# Altium footprint library Connector_Audio.PcbLib: 212 footprints (part 5 of 14)
Each footprint in its own frame and in the unit in brackets; x right, y up, seen from the top. Pads: shape width x height; smd on the part's side, far side on the other; paste and mask are expansions set on the pad; w line width, h text height; cw(c..) or ccw(c..) is an arc to the next point about the centre after c.
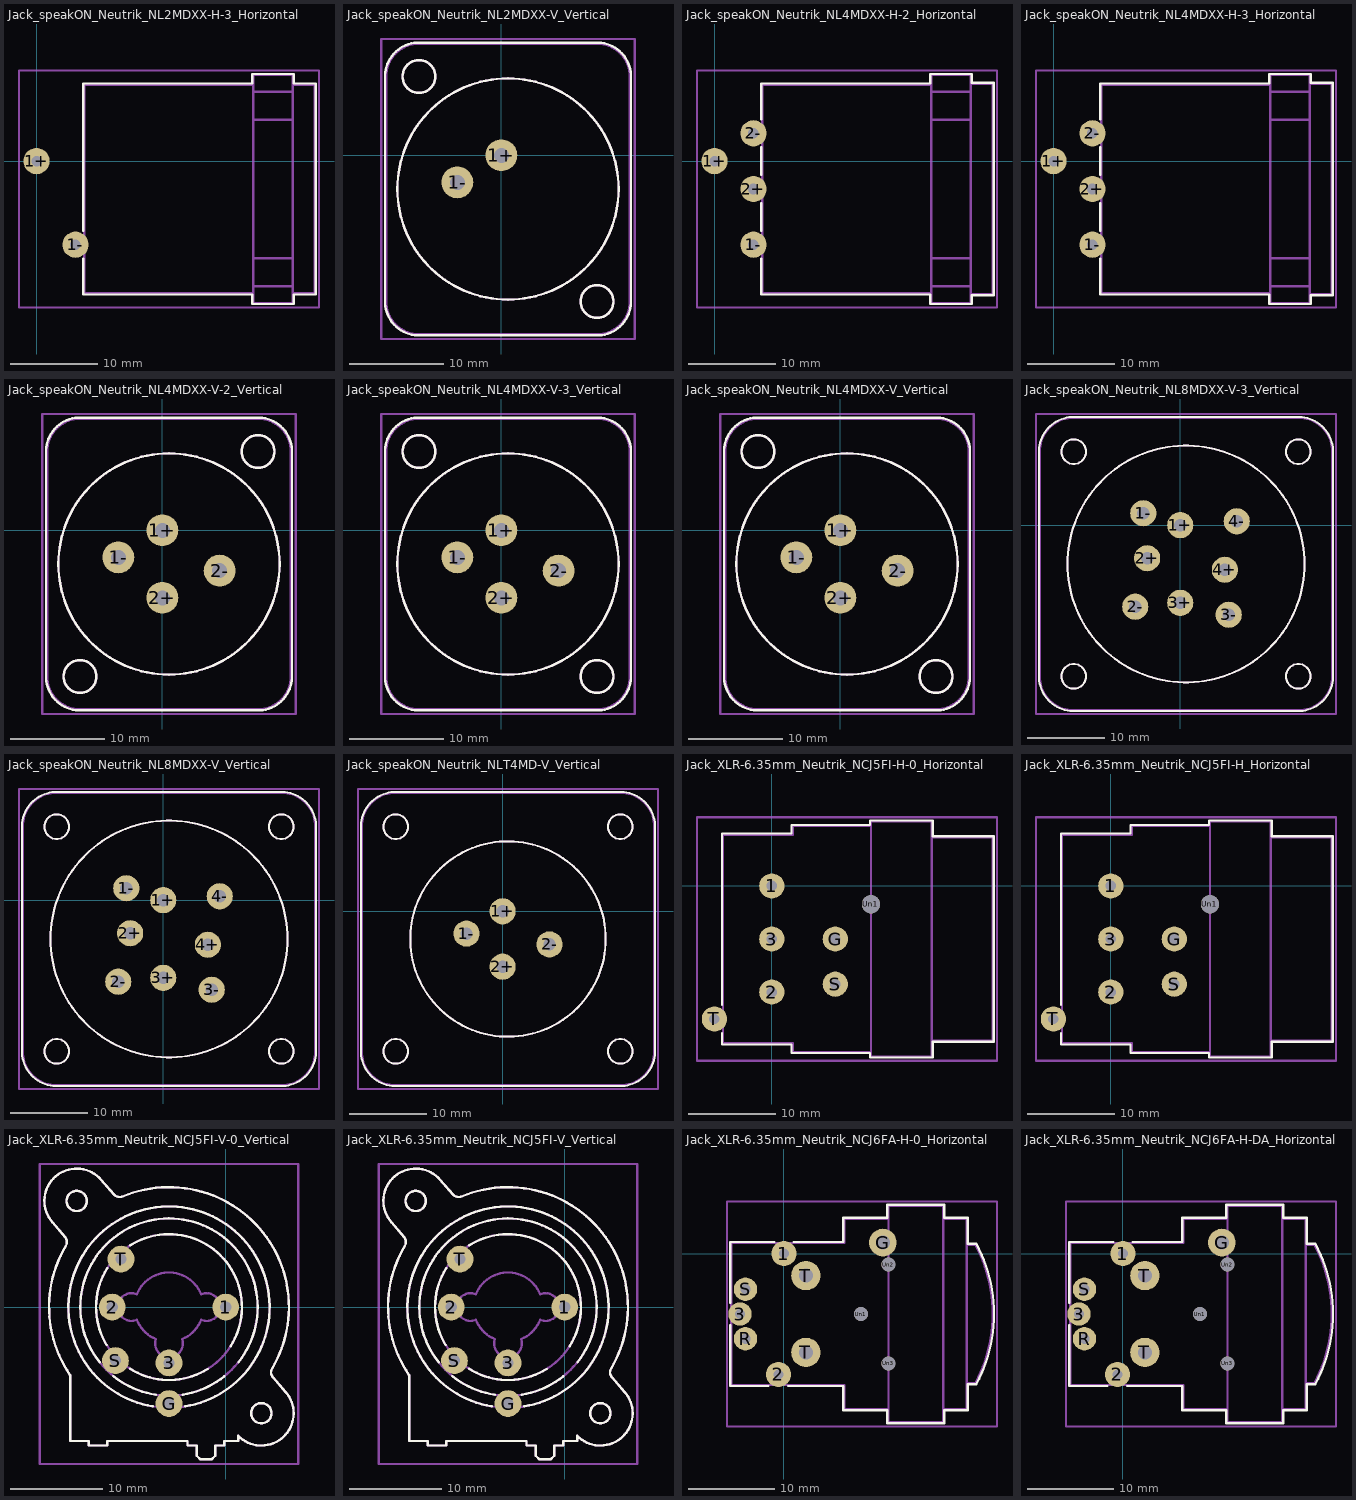
[diagram p4: the footprints below, top view; thin cyan lines are the x and y axes]

## Jack_speakON_Neutrik_NL2MDXX-H-3_Horizontal [mm]
pads (2):
  round 3 hole 1.2: 1+(0,0) 1-(4.44,-9.53)
F.SilkS:
  lines w0.254: 5.32,-11.13 5.32,-15.2 24.59,-15.2 24.59,-16.3 29.33,-16.3 29.33,-15.2 31.83,-15.2 31.83,8.84 29.33,8.84 29.33,9.94 24.59,9.94 24.59,8.84 5.32,8.84 5.32,-7.93
Top Assembly:
  lines w0.254: 24.71,-15.08 5.44,-15.08 5.44,8.72 24.71,8.72 ; 24.71,-14.28 29.21,-14.28 ; 24.71,-11.08 29.21,-11.08 ; 24.71,4.72 29.21,4.72 ; 24.71,7.92 29.21,7.92 ; 29.21,-15.08 31.71,-15.08 31.71,8.72 29.21,8.72 ; 24.71,-16.18 29.21,-16.18 29.21,9.82 24.71,9.82 24.71,-16.18
  text "'.Designator'" at 13.453,-5.605 h1
Top Courtyard:
  lines w0.254: -2,-16.68 32.21,-16.68 32.21,10.32 -2,10.32 -2,-16.68
Top Designator:
  text ".Designator" at 7.487,-3.688 h1.52
Dwgs.User:
  lines w0.254: 29.21,-16.18 29.21,9.82

## Jack_speakON_Neutrik_NL2MDXX-V_Vertical [mm]
pads (2):
  round 3.4 hole 1.6: 1+(0,0) 1-(-4.7,-2.9)
F.SilkS:
  circle w0.254: c-8.8,8.4 r1.75
  circle w0.254: c0.7,-3.6 r11.8
  circle w0.254: c10.2,-15.6 r1.75
  lines w0.254: -12.42,-15.72 -12.42,8.52 cw(c-8.8,8.4) -8.68,12.02 ; -12.42,-15.48 ccw(c-8.8,-15.6) -8.92,-19.22 10.32,-19.22 ; -8.92,12.02 10.32,12.02 cw(c10.2,8.4) 13.82,8.28 ; 10.08,-19.22 ccw(c10.2,-15.6) 13.82,-15.72 13.82,8.52
Top Assembly:
  circle w0.254: c-8.8,8.4 r1.75
  circle w0.254: c0.7,-3.6 r11.8
  circle w0.254: c10.2,-15.6 r1.75
  lines w0.254: -12.3,-15.6 ccw(c-8.8,-15.6) -8.8,-19.1 10.2,-19.1 ccw(c10.2,-15.6) 13.7,-15.6 13.7,8.4 ccw(c10.2,8.4) 10.2,11.9 -8.8,11.9 ccw(c-8.8,8.4) -12.3,8.4 -12.3,-15.6
  text "'.Designator'" at -3.347,-4.44 h1
Top Courtyard:
  lines w0.254: -12.8,-19.6 -12.8,12.4 14.2,12.4 14.2,-19.6 -12.8,-19.6
Top Designator:
  text ".Designator" at -6.918,-4.108 h1.52

## Jack_speakON_Neutrik_NL4MDXX-H-2_Horizontal [mm]
pads (4):
  round 3 hole 1.2: 1+(0,0) 1-(4.44,-9.53) 2+(4.44,-3.18) 2-(4.44,3.17)
F.SilkS:
  lines w0.254: 5.32,-11.13 5.32,-15.2 24.59,-15.2 24.59,-16.3 29.33,-16.3 29.33,-15.3 31.83,-15.3 31.83,8.94 29.33,8.94 29.33,9.94 24.59,9.94 24.59,8.84 5.32,8.84 5.32,4.77 ; 5.32,-7.93 5.32,-4.78 ; 5.32,-1.58 5.32,1.57
Top Assembly:
  lines w0.254: 24.71,-15.08 5.44,-15.08 5.44,8.72 24.71,8.72 ; 24.71,-14.28 29.21,-14.28 ; 24.71,-11.08 29.21,-11.08 ; 24.71,4.72 29.21,4.72 ; 24.71,7.92 29.21,7.92 ; 29.21,-15.18 31.71,-15.18 31.71,8.82 29.21,8.82 ; 24.71,-16.18 24.71,9.82 29.21,9.82 29.21,-16.18 24.71,-16.18
  text "'.Designator'" at 13.453,-5.605 h1
Top Courtyard:
  lines w0.254: -2,-16.68 -2,10.32 32.21,10.32 32.21,-16.68 -2,-16.68
Top Designator:
  text ".Designator" at 7.487,-3.688 h1.52
Dwgs.User:
  lines w0.254: 29.21,-16.18 29.21,9.82

## Jack_speakON_Neutrik_NL4MDXX-H-3_Horizontal [mm]
pads (4):
  round 3 hole 1.2: 1+(0,0) 1-(4.44,-9.53) 2+(4.44,-3.18) 2-(4.44,3.17)
F.SilkS:
  lines w0.254: 5.32,-11.13 5.32,-15.2 24.6,-15.2 ; 5.32,-7.93 5.32,-4.78 ; 5.32,-1.58 5.32,1.57 ; 5.32,4.77 5.32,8.84 24.59,8.84 24.59,9.94 29.33,9.94 29.33,8.94 31.83,8.94 31.83,-15.3 29.33,-15.3 29.33,-16.3 24.59,-16.3 24.59,-15.2
Top Assembly:
  lines w0.254: 24.71,-15.08 5.44,-15.08 5.44,8.72 24.71,8.72 ; 24.71,-14.28 29.21,-14.28 ; 24.71,-11.08 29.21,-11.08 ; 24.71,4.72 29.21,4.72 ; 24.71,7.92 29.21,7.92 ; 29.21,-15.18 31.71,-15.18 31.71,8.82 29.21,8.82 ; 24.71,-16.18 29.21,-16.18 29.21,9.82 24.71,9.82 24.71,-16.18
  text "'.Designator'" at 13.453,-5.605 h1
Top Courtyard:
  lines w0.254: -2,-16.68 32.21,-16.68 32.21,10.32 -2,10.32 -2,-16.68
Top Designator:
  text ".Designator" at 7.487,-3.688 h1.52
Dwgs.User:
  lines w0.254: 29.21,-16.18 29.21,9.82

## Jack_speakON_Neutrik_NL4MDXX-V-2_Vertical [mm]
pads (4):
  round 3.4 hole 1.6: 1+(0,0) 1-(-4.7,-2.9) 2+(0,-7.2) 2-(6.1,-4.3)
F.SilkS:
  circle w0.254: c10.2,8.4 r1.75
  circle w0.254: c0.7,-3.6 r11.8
  circle w0.254: c-8.8,-15.6 r1.75
  lines w0.254: -12.42,-15.72 -12.42,8.52 cw(c-8.8,8.4) -8.68,12.02 ; -12.42,-15.48 ccw(c-8.8,-15.6) -8.92,-19.22 10.32,-19.22 ; -8.92,12.02 10.32,12.02 cw(c10.2,8.4) 13.82,8.28 ; 10.08,-19.22 ccw(c10.2,-15.6) 13.82,-15.72 13.82,8.52
Top Assembly:
  circle w0.254: c10.2,8.4 r1.75
  circle w0.254: c0.7,-3.6 r11.8
  circle w0.254: c-8.8,-15.6 r1.75
  lines w0.254: -12.3,-15.6 ccw(c-8.8,-15.6) -8.8,-19.1 10.2,-19.1 ccw(c10.2,-15.6) 13.7,-15.6 13.7,8.4 ccw(c10.2,8.4) 10.2,11.9 -8.8,11.9 ccw(c-8.8,8.4) -12.3,8.4 -12.3,-15.6
  text "'.Designator'" at -3.347,-4.44 h1
Top Courtyard:
  lines w0.254: -12.8,-19.6 14.2,-19.6 14.2,12.4 -12.8,12.4 -12.8,-19.6
Top Designator:
  text ".Designator" at -6.918,-4.108 h1.52

## Jack_speakON_Neutrik_NL4MDXX-V-3_Vertical [mm]
pads (4):
  round 3.4 hole 1.6: 1+(0,0) 1-(-4.7,-2.9) 2+(0,-7.2) 2-(6.1,-4.3)
F.SilkS:
  circle w0.254: c10.2,-15.6 r1.75
  circle w0.254: c0.7,-3.6 r11.8
  circle w0.254: c-8.8,8.4 r1.75
  lines w0.254: -12.42,-15.72 -12.42,8.52 cw(c-8.8,8.4) -8.68,12.02 ; -12.42,-15.48 ccw(c-8.8,-15.6) -8.92,-19.22 10.32,-19.22 ; -8.92,12.02 10.32,12.02 cw(c10.2,8.4) 13.82,8.28 ; 10.08,-19.22 ccw(c10.2,-15.6) 13.82,-15.72 13.82,8.52
Top Assembly:
  circle w0.254: c10.2,-15.6 r1.75
  circle w0.254: c0.7,-3.6 r11.8
  circle w0.254: c-8.8,8.4 r1.75
  lines w0.254: -12.3,-15.6 ccw(c-8.8,-15.6) -8.8,-19.1 10.2,-19.1 ccw(c10.2,-15.6) 13.7,-15.6 13.7,8.4 ccw(c10.2,8.4) 10.2,11.9 -8.8,11.9 ccw(c-8.8,8.4) -12.3,8.4 -12.3,-15.6
  text "'.Designator'" at -3.347,-4.44 h1
Top Courtyard:
  lines w0.254: -12.8,-19.6 14.2,-19.6 14.2,12.4 -12.8,12.4 -12.8,-19.6
Top Designator:
  text ".Designator" at -6.918,-4.108 h1.52

## Jack_speakON_Neutrik_NL4MDXX-V_Vertical [mm]
pads (4):
  round 3.4 hole 1.6: 1+(0,0) 1-(-4.7,-2.9) 2+(0,-7.2) 2-(6.1,-4.3)
F.SilkS:
  circle w0.254: c10.2,-15.6 r1.75
  circle w0.254: c0.7,-3.6 r11.8
  circle w0.254: c-8.8,8.4 r1.75
  lines w0.254: -12.42,-15.72 -12.42,8.52 cw(c-8.8,8.4) -8.68,12.02 ; -12.42,-15.48 ccw(c-8.8,-15.6) -8.92,-19.22 10.32,-19.22 ; -8.92,12.02 10.32,12.02 cw(c10.2,8.4) 13.82,8.28 ; 10.08,-19.22 ccw(c10.2,-15.6) 13.82,-15.72 13.82,8.52
Top Assembly:
  circle w0.254: c10.2,-15.6 r1.75
  circle w0.254: c0.7,-3.6 r11.8
  circle w0.254: c-8.8,8.4 r1.75
  lines w0.254: -12.3,-15.6 ccw(c-8.8,-15.6) -8.8,-19.1 10.2,-19.1 ccw(c10.2,-15.6) 13.7,-15.6 13.7,8.4 ccw(c10.2,8.4) 10.2,11.9 -8.8,11.9 ccw(c-8.8,8.4) -12.3,8.4 -12.3,-15.6
  text "'.Designator'" at -3.347,-4.44 h1
Top Courtyard:
  lines w0.254: -12.8,-19.6 14.2,-19.6 14.2,12.4 -12.8,12.4 -12.8,-19.6
Top Designator:
  text ".Designator" at -6.918,-4.108 h1.52

## Jack_speakON_Neutrik_NL8MDXX-V-3_Vertical [mm]
pads (8):
  round 3.4 hole 1.6: 1+(0,0) 1-(-4.8,1.55) 2+(-4.3,-4.3) 2-(-5.85,-10.6) 3+(0,-10.1) 3-(6.3,-11.65) 4+(5.8,-5.8) 4-(7.35,0.5)
F.SilkS:
  circle w0.254: c15.35,-19.65 r1.6
  circle w0.254: c15.35,9.55 r1.6
  circle w0.254: c0.75,-5.05 r15.4
  circle w0.254: c-13.85,-19.65 r1.6
  circle w0.254: c-13.85,9.55 r1.6
  lines w0.254: -18.37,-19.77 -18.37,9.67 cw(c-13.85,9.55) -13.73,14.07 ; -18.37,-19.53 ccw(c-13.85,-19.65) -13.97,-24.17 15.47,-24.17 ; -13.97,14.07 15.47,14.07 cw(c15.35,9.55) 19.87,9.43 ; 15.23,-24.17 ccw(c15.35,-19.65) 19.87,-19.77 19.87,9.67
Top Assembly:
  circle w0.254: c15.35,-19.65 r1.6
  circle w0.254: c15.35,9.55 r1.6
  circle w0.254: c0.75,-5.05 r15.4
  circle w0.254: c-13.85,-19.65 r1.6
  circle w0.254: c-13.85,9.55 r1.6
  lines w0.254: -18.25,-19.65 ccw(c-13.85,-19.65) -13.85,-24.05 15.35,-24.05 ccw(c15.35,-19.65) 19.75,-19.65 19.75,9.55 ccw(c15.35,9.55) 15.35,13.95 -13.85,13.95 ccw(c-13.85,9.55) -18.25,9.55 -18.25,-19.65
  text "'.Designator'" at -3.297,-5.89 h1
Top Courtyard:
  lines w0.254: -18.75,-24.55 20.25,-24.55 20.25,14.45 -18.75,14.45 -18.75,-24.55
Top Designator:
  text ".Designator" at -6.868,-5.558 h1.52

## Jack_speakON_Neutrik_NL8MDXX-V_Vertical [mm]
pads (8):
  round 3.4 hole 1.6: 1+(0,0) 1-(-4.8,1.55) 2+(-4.3,-4.3) 2-(-5.85,-10.6) 3+(0,-10.1) 3-(6.3,-11.65) 4+(5.8,-5.8) 4-(7.35,0.5)
F.SilkS:
  circle w0.254: c15.35,-19.65 r1.6
  circle w0.254: c15.35,9.55 r1.6
  circle w0.254: c0.75,-5.05 r15.4
  circle w0.254: c-13.85,-19.65 r1.6
  circle w0.254: c-13.85,9.55 r1.6
  lines w0.254: -18.37,-19.77 -18.37,9.67 cw(c-13.85,9.55) -13.73,14.07 ; -18.37,-19.53 ccw(c-13.85,-19.65) -13.97,-24.17 15.47,-24.17 ; -13.97,14.07 15.47,14.07 cw(c15.35,9.55) 19.87,9.43 ; 15.23,-24.17 ccw(c15.35,-19.65) 19.87,-19.77 19.87,9.67
Top Assembly:
  circle w0.254: c15.35,-19.65 r1.6
  circle w0.254: c15.35,9.55 r1.6
  circle w0.254: c0.75,-5.05 r15.4
  circle w0.254: c-13.85,-19.65 r1.6
  circle w0.254: c-13.85,9.55 r1.6
  lines w0.254: -18.25,-19.65 ccw(c-13.85,-19.65) -13.85,-24.05 15.35,-24.05 ccw(c15.35,-19.65) 19.75,-19.65 19.75,9.55 ccw(c15.35,9.55) 15.35,13.95 -13.85,13.95 ccw(c-13.85,9.55) -18.25,9.55 -18.25,-19.65
  text "'.Designator'" at -3.297,-5.89 h1
Top Courtyard:
  lines w0.254: -18.75,-24.55 20.25,-24.55 20.25,14.45 -18.75,14.45 -18.75,-24.55
Top Designator:
  text ".Designator" at -6.868,-5.558 h1.52

## Jack_speakON_Neutrik_NLT4MD-V_Vertical [mm]
pads (4):
  round 3.4 hole 1.6: 1+(0,0) 1-(-4.7,-2.9) 2+(0,-7.2) 2-(6.1,-4.3)
F.SilkS:
  circle w0.254: c15.3,-18.2 r1.6
  circle w0.254: c15.3,11 r1.6
  circle w0.254: c0.7,-3.6 r12.7
  circle w0.254: c-13.9,-18.2 r1.6
  circle w0.254: c-13.9,11 r1.6
  lines w0.254: -18.42,-18.32 -18.42,11.12 cw(c-13.9,11) -13.78,15.52 ; -18.42,-18.08 ccw(c-13.9,-18.2) -14.02,-22.72 15.42,-22.72 ; -14.02,15.52 15.42,15.52 cw(c15.3,11) 19.82,10.88 ; 15.18,-22.72 ccw(c15.3,-18.2) 19.82,-18.32 19.82,11.12
Top Assembly:
  circle w0.254: c15.3,-18.2 r1.6
  circle w0.254: c15.3,11 r1.6
  circle w0.254: c0.7,-3.6 r12.7
  circle w0.254: c-13.9,-18.2 r1.6
  circle w0.254: c-13.9,11 r1.6
  lines w0.254: -18.3,-18.2 ccw(c-13.9,-18.2) -13.9,-22.6 15.3,-22.6 ccw(c15.3,-18.2) 19.7,-18.2 19.7,11 ccw(c15.3,11) 15.3,15.4 -13.9,15.4 ccw(c-13.9,11) -18.3,11 -18.3,-18.2
  text "'.Designator'" at -3.347,-4.44 h1
Top Courtyard:
  lines w0.254: -18.8,-23.1 20.2,-23.1 20.2,15.9 -18.8,15.9 -18.8,-23.1
Top Designator:
  text ".Designator" at -6.918,-4.108 h1.52

## Jack_XLR-6.35mm_Neutrik_NCJ5FI-H-0_Horizontal [mm]
pads (7):
  round 2.9 hole 1.2: 1(0,0) 2(0,-12.2) 3(0,-6.1) G(7.3,-6.1) S(7.3,-11.3) T(-6.6,-15.3)
  round 2.1 hole 2.1: Un1(11.4,-2.1)
F.SilkS:
  lines w0.254: -5.72,-16.9 -5.72,-18.22 2.28,-18.22 2.28,-19.22 11.28,-19.22 11.28,-19.72 18.52,-19.72 18.52,-17.92 25.52,-17.92 25.52,5.72 18.52,5.72 18.52,7.52 11.28,7.52 11.28,7.02 2.28,7.02 2.28,6.02 -5.72,6.02 -5.72,-13.7
Top Assembly:
  lines w0.254: 11.4,-19.1 2.4,-19.1 2.4,-18.1 -5.6,-18.1 -5.6,5.9 2.4,5.9 2.4,6.9 11.4,6.9 ; 18.4,-17.8 25.4,-17.8 25.4,5.6 18.4,5.6 ; 11.4,-19.6 18.4,-19.6 18.4,7.4 11.4,7.4 11.4,-19.6
  text "'.Designator'" at 10.853,-6.94 h1
Top Courtyard:
  lines w0.254: -8.6,-20.1 25.9,-20.1 25.9,7.9 -8.6,7.9 -8.6,-20.1
Top Designator:
  text ".Designator" at 1.032,-6.608 h1.52
Dwgs.User:
  lines w0.254: 18.4,-19.6 18.4,7.4

## Jack_XLR-6.35mm_Neutrik_NCJ5FI-H_Horizontal [mm]
pads (7):
  round 2.9 hole 1.2: 1(0,0) 2(0,-12.2) 3(0,-6.1) G(7.3,-6.1) S(7.3,-11.3) T(-6.6,-15.3)
  round 2.1 hole 2.1: Un1(11.4,-2.1)
F.SilkS:
  lines w0.254: -5.72,-16.9 -5.72,-18.22 2.28,-18.22 2.28,-19.22 11.28,-19.22 11.28,-19.72 18.52,-19.72 18.52,-17.92 25.52,-17.92 25.52,5.72 18.52,5.72 18.52,7.52 11.28,7.52 11.28,7.02 2.28,7.02 2.28,6.02 -5.72,6.02 -5.72,-13.7
Top Assembly:
  lines w0.254: 11.4,-19.1 2.4,-19.1 2.4,-18.1 -5.6,-18.1 -5.6,5.9 2.4,5.9 2.4,6.9 11.4,6.9 ; 18.4,-17.8 25.4,-17.8 25.4,5.6 18.4,5.6 ; 11.4,-19.6 18.4,-19.6 18.4,7.4 11.4,7.4 11.4,-19.6
  text "'.Designator'" at 10.853,-6.94 h1
Top Courtyard:
  lines w0.254: -8.6,-20.1 25.9,-20.1 25.9,7.9 -8.6,7.9 -8.6,-20.1
Top Designator:
  text ".Designator" at 1.032,-6.608 h1.52
Dwgs.User:
  lines w0.254: 18.4,-19.6 18.4,7.4

## Jack_XLR-6.35mm_Neutrik_NCJ5FI-V-0_Vertical [mm]
pads (6):
  round 2.9 hole 1.2: 1(0,0) 2(-12.3,0) 3(-6.15,-6.05) G(-6.15,-10.45) S(-11.95,-5.8) T(-11.35,5.2)
F.SilkS:
  circle w0.254: c-16.15,11.5 r1.1
  circle w0.254: c3.85,-11.5 r1.1
  lines w0.254: -16.851,-7.375 cw(c-6.15,0) -17.31,6.66 ccw(c-18.08,7.06) -17.4,7.6 -18.79,9.2 cw(c-16.15,11.5) -13.51,13.8 -12.11,12.19 ccw(c-11.5,12.73) -11.178,11.982 ; -16.85,-7.38 -16.85,-14.5 -14.85,-14.5 -14.85,-15 -12.85,-15 -12.85,-14.5 -4.15,-14.5 -4.15,-15 -3.15,-15 -3.15,-16.1 -2.75,-16.5 -1.55,-16.5 -1.15,-16.1 -1.15,-15 -0.15,-15 -0.15,-14.5 1.35,-14.5 1.35,-13.95 ; -13.65,-6 cw(c-6.15,0) 1.373,-5.971 ; -12.9,-4.11 cw(c-6.15,0) -12.847,4.195 ; -12.191,-7.464 ccw(c-6.15,0) -7.55,-9.5 ; -11.201,11.974 cw(c-6.15,0) 5.01,-6.66 ccw(c5.69,-7.07) 5.109,-7.612 ; -10.37,-6.681 ccw(c-6.15,0) -1.96,-6.7 ; -10.34,6.7 cw(c-6.15,0) 0.524,-4.232 ; -7.9,-10.76 cw(c-6.15,0) -4.395,-10.759 ; -4.663,-9.483 ccw(c-6.15,0) -0.16,-7.5 ; 1.351,-13.953 ccw(c3.85,-11.5) 6.49,-9.2 5.1,-7.6
Top Assembly:
  circle w0.254: c-16.15,11.5 r1.1
  circle w0.254: c-6.15,0 r7.9
  circle w0.254: c-6.15,0 r9.6
  circle w0.254: c-6.15,0 r10.9
  circle w0.254: c3.85,-11.5 r1.1
  lines w0.254: -16.851,-7.375 cw(c-6.15,0) -17.31,6.66 ccw(c-18.08,7.06) -17.4,7.6 -18.79,9.2 cw(c-16.15,11.5) -13.51,13.8 -12.11,12.19 ccw(c-11.5,12.73) -11.178,11.982 ; -16.85,-7.38 -16.85,-14.5 -14.85,-14.5 -14.85,-15 -12.85,-15 -12.85,-14.5 -4.15,-14.5 -4.15,-15 -3.15,-15 -3.15,-16.1 -2.75,-16.5 -1.55,-16.5 -1.15,-16.1 -1.15,-15 -0.15,-15 -0.15,-14.5 1.35,-14.5 1.35,-13.95 ; -11.201,11.974 cw(c-6.15,0) 5.01,-6.66 ccw(c5.69,-7.07) 5.109,-7.612 ; -9.635,-1.392 cw(c-10.2,0) -9.63,1.39 ; -9.631,1.387 cw(c-6.15,0) -2.67,1.39 ; -9.63,-1.39 ccw(c-6.15,0) -7.568,-3.469 ; -7.57,-3.47 ccw(c-6.15,-3.95) -4.73,-3.471 ; -4.73,-3.47 ccw(c-6.15,0) -2.667,-1.389 ; -2.67,-1.39 ccw(c-2.1,0) -2.665,1.392 ; 1.351,-13.953 ccw(c3.85,-11.5) 6.49,-9.2 5.1,-7.6
  text "'.Designator'" at -10.197,-0.84 h1
Top Courtyard:
  lines w0.254: -20.15,-17 -20.15,15.5 7.85,15.5 7.85,-17 -20.15,-17
Top Designator:
  text ".Designator" at -13.768,-1.258 h1.52

## Jack_XLR-6.35mm_Neutrik_NCJ5FI-V_Vertical [mm]
pads (6):
  round 2.9 hole 1.2: 1(0,0) 2(-12.3,0) 3(-6.15,-6.05) G(-6.15,-10.45) S(-11.95,-5.8) T(-11.35,5.2)
F.SilkS:
  circle w0.254: c-16.15,11.5 r1.1
  circle w0.254: c3.85,-11.5 r1.1
  lines w0.254: -16.851,-7.375 cw(c-6.15,0) -17.31,6.66 ccw(c-18.08,7.06) -17.4,7.6 -18.79,9.2 cw(c-16.15,11.5) -13.51,13.8 -12.11,12.19 ccw(c-11.5,12.73) -11.178,11.982 ; -16.85,-7.38 -16.85,-14.5 -14.85,-14.5 -14.85,-15 -12.85,-15 -12.85,-14.5 -4.15,-14.5 -4.15,-15 -3.15,-15 -3.15,-16.1 -2.75,-16.5 -1.55,-16.5 -1.15,-16.1 -1.15,-15 -0.15,-15 -0.15,-14.5 1.35,-14.5 1.35,-13.95 ; -13.65,-6 cw(c-6.15,0) 1.373,-5.971 ; -12.9,-4.11 cw(c-6.15,0) -12.847,4.195 ; -12.191,-7.464 ccw(c-6.15,0) -7.55,-9.5 ; -11.201,11.974 cw(c-6.15,0) 5.01,-6.66 ccw(c5.69,-7.07) 5.109,-7.612 ; -10.37,-6.681 ccw(c-6.15,0) -1.96,-6.7 ; -10.34,6.7 cw(c-6.15,0) 0.524,-4.232 ; -7.9,-10.76 cw(c-6.15,0) -4.395,-10.759 ; -4.663,-9.483 ccw(c-6.15,0) -0.16,-7.5 ; 1.351,-13.953 ccw(c3.85,-11.5) 6.49,-9.2 5.1,-7.6
Top Assembly:
  circle w0.254: c-16.15,11.5 r1.1
  circle w0.254: c-6.15,0 r7.9
  circle w0.254: c-6.15,0 r9.6
  circle w0.254: c-6.15,0 r10.9
  circle w0.254: c3.85,-11.5 r1.1
  lines w0.254: -16.851,-7.375 cw(c-6.15,0) -17.31,6.66 ccw(c-18.08,7.06) -17.4,7.6 -18.79,9.2 cw(c-16.15,11.5) -13.51,13.8 -12.11,12.19 ccw(c-11.5,12.73) -11.178,11.982 ; -16.85,-7.38 -16.85,-14.5 -14.85,-14.5 -14.85,-15 -12.85,-15 -12.85,-14.5 -4.15,-14.5 -4.15,-15 -3.15,-15 -3.15,-16.1 -2.75,-16.5 -1.55,-16.5 -1.15,-16.1 -1.15,-15 -0.15,-15 -0.15,-14.5 1.35,-14.5 1.35,-13.95 ; -11.201,11.974 cw(c-6.15,0) 5.01,-6.66 ccw(c5.69,-7.07) 5.109,-7.612 ; -9.635,-1.392 cw(c-10.2,0) -9.63,1.39 ; -9.631,1.387 cw(c-6.15,0) -2.67,1.39 ; -9.63,-1.39 ccw(c-6.15,0) -7.568,-3.469 ; -7.57,-3.47 ccw(c-6.15,-3.95) -4.73,-3.471 ; -4.73,-3.47 ccw(c-6.15,0) -2.667,-1.389 ; -2.67,-1.39 ccw(c-2.1,0) -2.665,1.392 ; 1.351,-13.953 ccw(c3.85,-11.5) 6.49,-9.2 5.1,-7.6
  text "'.Designator'" at -10.197,-0.84 h1
Top Courtyard:
  lines w0.254: -20.15,-17 -20.15,15.5 7.85,15.5 7.85,-17 -20.15,-17
Top Designator:
  text ".Designator" at -13.768,-1.258 h1.52

## Jack_XLR-6.35mm_Neutrik_NCJ6FA-H-0_Horizontal [mm]
pads (11):
  round 2.9 hole 1.2: 1(0,0) 2(-0.635,-13.97)
  round 2.7 hole 1.2: 3(-5.08,-6.985) R(-4.445,-9.842) S(-4.445,-4.127)
  round 3.2 hole 1.6: G(11.43,1.27)
  round 3.4 hole 1.6: T(2.54,-11.43) T(2.54,-2.54)
  round 1.6 hole 1.6: Un1(8.89,-6.985) Un2(12.065,-1.27) Un3(12.065,-12.7)
F.SilkS:
  lines w0.254: -6.205,-15.305 -6.205,-8.285 ; -6.205,-15.3 -1.8,-15.3 ; -6.205,-5.685 -6.205,1.335 -1.1,1.335 ; 0.5,-15.305 6.845,-15.305 6.845,-18.105 11.945,-18.105 11.945,-19.605 18.535,-19.605 18.535,-18.105 21.235,-18.105 21.235,-15.105 22.235,-15.105 ; 1.1,1.335 6.845,1.335 6.845,4.135 11.945,4.135 11.945,5.635 18.535,5.635 18.535,4.135 21.235,4.135 21.235,1.135 22.235,1.135 cw(c7.115,-6.985) 22.246,-15.085
Top Assembly:
  lines w0.254: 12.065,-17.985 6.965,-17.985 6.965,-15.185 -6.085,-15.185 -6.085,1.215 6.965,1.215 6.965,4.015 12.065,4.015 ; 18.415,-17.985 21.115,-17.985 21.115,4.015 18.415,4.015 ; 21.115,-14.985 22.115,-14.985 ; 21.115,1.015 22.115,1.015 cw(c7.115,-6.985) 22.121,-14.973 ; 12.065,-19.485 18.415,-19.485 18.415,5.515 12.065,5.515 12.065,-19.485
  text "'.Designator'" at 11.218,-7.825 h1
Top Courtyard:
  lines w0.254: -6.59,-19.98 24.62,-19.98 24.62,6.02 -6.59,6.02 -6.59,-19.98
Top Designator:
  text ".Designator" at 1.397,-7.488 h1.52
Dwgs.User:
  lines w0.254: 18.415,-19.485 18.415,5.515

## Jack_XLR-6.35mm_Neutrik_NCJ6FA-H-DA_Horizontal [mm]
pads (11):
  round 2.9 hole 1.2: 1(0,0) 2(-0.635,-13.97)
  round 2.7 hole 1.2: 3(-5.08,-6.985) R(-4.445,-9.842) S(-4.445,-4.127)
  round 3.2 hole 1.6: G(11.43,1.27)
  round 3.4 hole 1.6: T(2.54,-11.43) T(2.54,-2.54)
  round 1.6 hole 1.6: Un1(8.89,-6.985) Un2(12.065,-1.27) Un3(12.065,-12.7)
F.SilkS:
  lines w0.254: -6.205,-8.285 -6.205,-15.305 -1.8,-15.305 ; -6.205,-5.685 -6.205,1.335 -1.1,1.335 ; 0.5,-15.305 6.845,-15.305 6.845,-18.105 11.945,-18.105 11.945,-19.605 18.535,-19.605 18.535,-18.105 21.235,-18.105 21.235,-15.105 22.235,-15.105 ; 1.1,1.335 6.845,1.335 6.845,4.135 11.945,4.135 11.945,5.635 18.535,5.635 18.535,4.135 21.235,4.135 21.235,1.135 22.235,1.135 cw(c7.115,-6.985) 22.246,-15.085
Top Assembly:
  lines w0.254: 12.065,-17.985 6.965,-17.985 6.965,-15.185 -6.085,-15.185 -6.085,1.215 6.965,1.215 6.965,4.015 12.065,4.015 ; 18.415,-17.985 21.115,-17.985 21.115,4.015 18.415,4.015 ; 21.115,-14.985 22.115,-14.985 ; 21.115,1.015 22.115,1.015 cw(c7.115,-6.985) 22.121,-14.973 ; 12.065,-19.485 18.415,-19.485 18.415,5.515 12.065,5.515 12.065,-19.485
  text "'.Designator'" at 11.218,-7.825 h1
Top Courtyard:
  lines w0.254: -6.59,-19.98 24.62,-19.98 24.62,6.02 -6.59,6.02 -6.59,-19.98
Top Designator:
  text ".Designator" at 1.397,-7.488 h1.52
Dwgs.User:
  lines w0.254: 18.415,-19.485 18.415,5.515